# Altium schematic symbol library 06033C223KAT2A.SchLib: 1 symbol
Pins are listed as number, name and electrical type; pins without a type are passive.

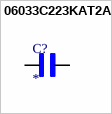
[diagram p0: symbol 06033C223KAT2A]

## 06033C223KAT2A
designator C?
MF: {'manufacturer': u'AVX'}; MP: 06033C223KAT2A; Package: None; Price: None; Value: *; Availability: Unavailable
footprint CAPC1608X90N
pins: 1, 2